# Altium footprint library Heat-Sinks.PcbLib: 58 footprints (part 4 of 4)
Each footprint in its own frame and in the unit in brackets; x right, y up, seen from the top. Pads: shape width x height; smd on the part's side, far side on the other; paste and mask are expansions set on the pad; w line width, h text height; cw(c..) or ccw(c..) is an arc to the next point about the centre after c.
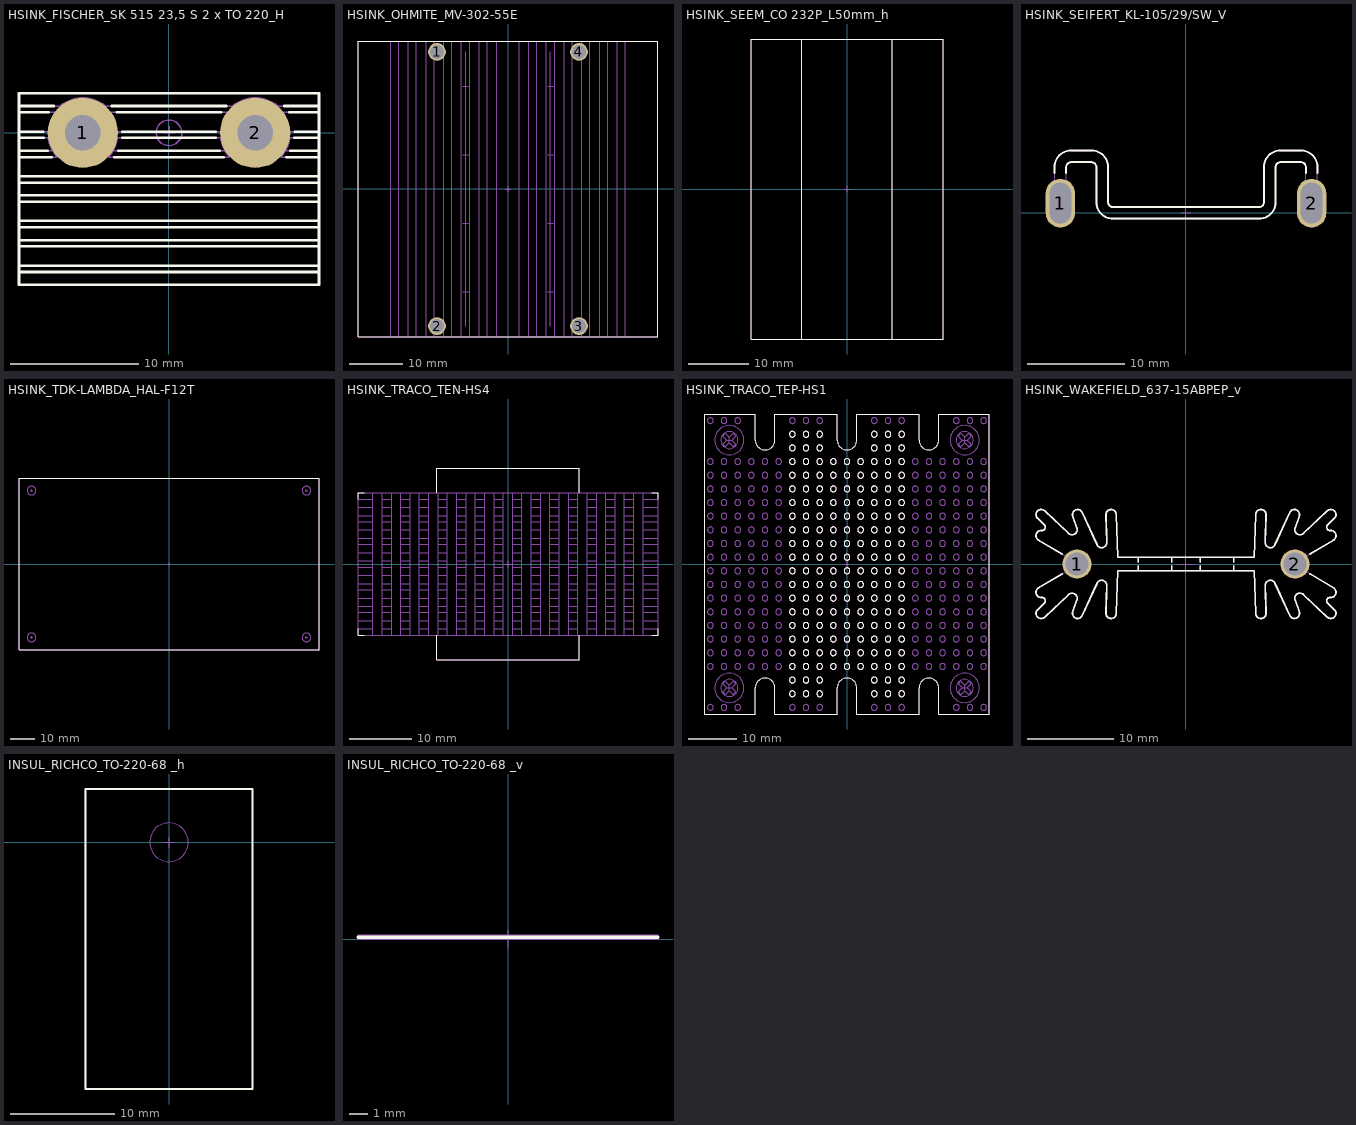
[diagram p3: the footprints below, top view; thin cyan lines are the x and y axes]

## HSINK_FISCHER_SK 515 23,5 S 2 x TO 220_H [mm] "Black Anodised Extruded Heat Sink Rth: 27.5°C/W For 2 x TO220 - Body L 23.5mm X W 15mm H 10.7mm (Screw Fastening M2.5 Version)"
height 10.7
pads (2):
  round 5.5 hole 2.8: 1(-6.75,0) 2(6.75,0)
Top Overlay:
  lines w0.2: -11.75,-10.9 11.75,-10.9 ; -11.75,-10.4 11.75,-10.4 ; -11.75,-8.9 11.75,-8.9 ; -11.75,-8.4 11.75,-8.4 ; -11.75,-7.4 11.75,-7.4 ; -11.75,-6.9 11.75,-6.9 ; -11.75,-5.4 11.75,-5.4 ; -11.75,-4.9 11.75,-4.9 ; -11.75,-3.9 11.75,-3.9 ; -11.75,-3.4 11.75,-3.4 ; -11.75,-1.9 -9.199,-1.9 ; -11.75,-1.4 -9.516,-1.4 ; -11.75,-0.4 -9.824,-0.4 ; -11.75,0.1 -9.848,0.1 ; -11.75,1.6 -9.405,1.6 ; -11.75,2.1 -9.03,2.1 ; -4.47,2.1 4.47,2.1 ; -4.3,-1.9 4.301,-1.9 ; -4.095,1.6 4.095,1.6 ; -3.984,-1.4 3.984,-1.4 ; -3.652,0.1 3.652,0.1 ; 9.03,2.1 11.75,2.1 ; 9.2,-1.9 11.75,-1.9 ; 9.405,1.6 11.75,1.6 ; 9.516,-1.4 11.75,-1.4 ; 9.824,-0.4 11.75,-0.4 ; 9.848,0.1 11.75,0.1 ; -11.75,-11.9 -11.75,3.1 11.75,3.1 11.75,-11.9 -11.75,-11.9 ; -3.676,-0.4 3.676,-0.4 -3.676,-0.4
Mechanical 8:
  lines w0.1: -7.25,0 -6.75,0 ; -6.75,-0.5 -6.75,0 ; -6.75,0.5 -6.75,0 ; -6.25,0 -6.75,0 ; -0.5,0 0,0 ; 0,-0.5 0,0 ; 0,0.5 0,0 ; 0.5,0 0,0 ; 6.25,0 6.75,0 ; 6.75,-0.5 6.75,0 ; 6.75,0.5 6.75,0 ; 7.25,0 6.75,0
Mechanical 14:
  circle w0.1: c0,0 r1
  circle w0.1: c6.75,0 r1.4
  circle w0.1: c-6.75,0 r1.4
  lines w0.1: -11.75,-10.9 11.75,-10.9 ; -11.75,-10.4 11.75,-10.4 ; -11.75,-8.9 11.75,-8.9 ; -11.75,-8.4 11.75,-8.4 ; -11.75,-7.4 11.75,-7.4 ; -11.75,-6.9 11.75,-6.9 ; -11.75,-5.4 11.75,-5.4 ; -11.75,-4.9 11.75,-4.9 ; -11.75,-3.9 11.75,-3.9 ; -11.75,-3.4 11.75,-3.4 ; -11.75,-1.9 -8.738,-1.9 cw(c-6.75,0) -9.471,-0.4 ; -11.75,-1.4 -9.117,-1.4 ; -11.75,-0.4 -8.092,-0.4 ; -11.75,0.1 -8.146,0.1 ; -11.75,1.6 11.75,1.6 ; -11.75,2.1 11.75,2.1 ; -8.525,2.1 cw(c-6.75,0) -4.974,2.1 ; -5.408,-0.4 5.408,-0.4 ; -5.354,0.1 5.354,0.1 ; -4.383,-1.4 4.383,-1.4 ; 4.975,2.1 cw(c6.75,0) 8.526,2.1 ; 8.092,-0.4 11.75,-0.4 ; 8.146,0.1 11.75,0.1 ; 9.117,-1.4 11.75,-1.4 ; 9.471,-0.4 cw(c6.75,0) 8.738,-1.9 11.75,-1.9 ; -11.75,-11.9 -11.75,3.1 11.75,3.1 11.75,-11.9 -11.75,-11.9 ; -4.762,-1.9 ccw(c-6.75,0) -4.029,-0.4 4.029,-0.4 ccw(c6.75,0) 4.762,-1.9 -4.762,-1.9
3D body "HSINK_FISCHER_SK 515 23,5 S 2 x TO 220_h.stp": height 10.7, standoff 0, extent -11.75,-11.9 11.75,3.1

## HSINK_OHMITE_MV-302-55E [mm] "Heatsink With Clips For TO-264 And TO-247, L 55mm x W 55.9mm x H 43.5mm, Vertical Mount"
height 43.5
pads (4):
  round 3.3 hole 2.6: 1(-13.2,25.5) 2(-13.2,-25.5) 3(13.2,-25.5) 4(13.2,25.5)
Top Overlay:
  lines w0.2: -27.9,-27.5 27.9,-27.5 27.9,27.5 -27.9,27.5 -27.9,-27.5
Mechanical 8:
  circle w0.05: c-13.2,-25.5 r1.25
  circle w0.05: c13.2,-25.5 r1.25
  circle w0.05: c-13.2,25.5 r1.25
  circle w0.05: c13.2,25.5 r1.25
  lines w0.05: -13.7,-25.5 -13.2,-25.5 ; -13.7,25.5 -13.2,25.5 ; -13.2,-26 -13.2,-25.5 ; -13.2,-25 -13.2,-25.5 ; -13.2,25 -13.2,25.5 ; -13.2,26 -13.2,25.5 ; -12.7,-25.5 -13.2,-25.5 ; -12.7,25.5 -13.2,25.5 ; -8.4,-19.125 -7.9,-19.125 ; -8.4,-6.375 -7.9,-6.375 ; -8.4,6.375 -7.9,6.375 ; -8.4,19.125 -7.9,19.125 ; -7.9,-25.5 -7.9,25.5 ; -7.9,-19.625 -7.9,-19.125 ; -7.9,-18.625 -7.9,-19.125 ; -7.9,-6.875 -7.9,-6.375 ; -7.9,-5.875 -7.9,-6.375 ; -7.9,5.875 -7.9,6.375 ; -7.9,6.875 -7.9,6.375 ; -7.9,18.625 -7.9,19.125 ; -7.9,19.625 -7.9,19.125 ; -7.4,-19.125 -7.9,-19.125 ; -7.4,-6.375 -7.9,-6.375 ; -7.4,6.375 -7.9,6.375 ; -7.4,19.125 -7.9,19.125 ; -0.5,0 0,0 ; 0,-0.5 0,0 ; 0,0.5 0,0 ; 0.5,0 0,0 ; 7.4,-19.125 7.9,-19.125 ; 7.4,-6.375 7.9,-6.375 ; 7.4,6.375 7.9,6.375 ; 7.4,19.125 7.9,19.125 ; 7.9,-25.5 7.9,25.5 ; 7.9,-19.625 7.9,-19.125 ; 7.9,-18.625 7.9,-19.125 ; 7.9,-6.875 7.9,-6.375 ; 7.9,-5.875 7.9,-6.375 ; 7.9,5.875 7.9,6.375 ; 7.9,6.875 7.9,6.375 ; 7.9,18.625 7.9,19.125 ; 7.9,19.625 7.9,19.125 ; 8.4,-19.125 7.9,-19.125 ; 8.4,-6.375 7.9,-6.375 ; 8.4,6.375 7.9,6.375 ; 8.4,19.125 7.9,19.125 ; 12.7,-25.5 13.2,-25.5 ; 12.7,25.5 13.2,25.5 ; 13.2,-26 13.2,-25.5 ; 13.2,-25 13.2,-25.5 ; 13.2,25 13.2,25.5 ; 13.2,26 13.2,25.5 ; 13.7,-25.5 13.2,-25.5 ; 13.7,25.5 13.2,25.5
Mechanical 14:
  lines w0.1: -21.85,-27.5 -21.85,27.5 ; -20.35,-27.5 -20.35,27.5 ; -18.55,-27.5 -18.55,27.5 ; -17.05,-27.5 -17.05,27.5 ; -15.25,-27.5 -15.25,27.5 ; -13.75,-27.5 -13.75,27.5 ; -11.95,-27.5 -11.95,27.5 ; -10.45,-27.5 -10.45,27.5 ; -8.65,-27.5 -8.65,27.5 ; -7.15,-27.5 -7.15,27.5 ; -5.35,-27.5 -5.35,27.5 ; -3.85,-27.5 -3.85,27.5 ; -2.05,-27.5 -2.05,27.5 ; 2.05,-27.5 2.05,27.5 ; 3.85,-27.5 3.85,27.5 ; 5.35,-27.5 5.35,27.5 ; 7.15,-27.5 7.15,27.5 ; 8.65,-27.5 8.65,27.5 ; 10.45,-27.5 10.45,27.5 ; 11.95,-27.5 11.95,27.5 ; 13.75,-27.5 13.75,27.5 ; 15.25,-27.5 15.25,27.5 ; 17.05,-27.5 17.05,27.5 ; 18.55,-27.5 18.55,27.5 ; 20.35,-27.5 20.35,27.5 ; 21.85,-27.5 21.85,27.5 ; -27.9,-27.5 27.9,-27.5 27.9,27.5 -27.9,27.5 -27.9,-27.5
3D body "HSINK_OHMITE_MV-302-55E.stp": height 43.74, standoff -3.8, extent -27.899,-27.5 27.9,27.5

## HSINK_SEEM_CO 232P_L50mm_h [mm] "Rth: 6.8°C/W - 50mm Cut Black Anodized Heatsinks"
height 14.1
Top Overlay:
  lines w0.2: -7.5,-25 -7.5,25 ; 7.5,-25 7.5,25 ; -16,-25 -16,25 0,25 16,25 16,-25 0,-25 -16,-25
Mechanical 8:
  lines w0.1: -0.5,0 0,0 ; 0,-0.5 0,0 ; 0,0.5 0,0 ; 0.5,0 0,0
Mechanical 14:
  lines w0.1: -7.5,-25 -7.5,25 ; 7.5,-25 7.5,25 ; -16,-25 16,-25 16,25 -16,25 -16,-25
3D body "HSINK_SEEM_CO 232P_L50mm_h.stp": height 14.1, standoff 0, extent -16,-25 16,25

## HSINK_SEIFERT_KL-105/29/SW_V [mm] "TO-220 Heat Sink  Rth: 19°C/W - Vertical Mount"
height 29
pads (2):
  oval 3x5 hole 2.2 slot 4.2 at 90 deg: 1(-12.9,1) 2(12.9,1)
Top Overlay:
  lines w0.2: -13.5,4.1 -13.5,4.699 ; -13.5,4.7 cw(c-11.8,4.7) -11.8,6.4 -9.7,6.4 cw(c-9.7,4.7) -8,4.7 -8,1.1 ccw(c-7.5,1.1) -7.5,0.6 7.5,0.6 ccw(c7.5,1.1) 8,1.1 8,4.7 cw(c9.7,4.7) 9.7,6.4 11.8,6.4 cw(c11.8,4.7) 13.5,4.7 13.5,4.1 ; -12.3,4.1 -12.3,4.7 cw(c-11.8,4.7) -11.8,5.2 -9.7,5.2 cw(c-9.7,4.7) -9.2,4.7 -9.2,1.1 ccw(c-7.5,1.1) -7.5,-0.6 7.5,-0.6 ccw(c7.5,1.1) 9.2,1.1 9.2,4.7 cw(c9.7,4.7) 9.7,5.2 11.8,5.2 cw(c11.8,4.7) 12.3,4.7 ; 12.3,4.1 12.3,4.699
Mechanical 8:
  lines w0.1: -13.4,0 -12.9,0 ; -13.4,1 -12.9,1 ; -13.4,2 -12.9,2 ; -12.9,-0.5 -12.9,0 ; -12.9,2.5 -12.9,2 ; -12.4,0 -12.9,0 ; -12.4,1 -12.9,1 ; -12.4,2 -12.9,2 ; -0.5,0 0,0 ; 0,-0.5 0,0 ; 0,0.5 0,0 ; 0.5,0 0,0 ; 12.4,0 12.9,0 ; 12.4,1 12.9,1 ; 12.4,2 12.9,2 ; 12.9,-0.5 12.9,0 ; 12.9,2.5 12.9,2 ; 13.4,0 12.9,0 ; 13.4,1 12.9,1 ; 13.4,2 12.9,2 ; -12.9,0 -12.9,0.5 -12.9,1 ; -12.9,1 -12.9,1.5 -12.9,2 ; 12.9,0 12.9,0.5 12.9,1 ; 12.9,1 12.9,1.5 12.9,2 ; -14,0 ccw(c-12.9,0) -11.8,0 -11.8,2 ccw(c-12.9,2) -14,2 -14,0 ; 11.8,0 ccw(c12.9,0) 14,0 14,2 ccw(c12.9,2) 11.8,2 11.8,0
Mechanical 14:
  lines w0.1: -13.5,-0.6 -13.5,4.7 cw(c-11.8,4.7) -11.8,6.4 -9.7,6.4 cw(c-9.7,4.7) -8,4.7 -8,1.1 ccw(c-7.5,1.1) -7.5,0.6 7.5,0.6 ccw(c7.5,1.1) 8,1.1 8,4.7 cw(c9.7,4.7) 9.7,6.4 11.8,6.4 cw(c11.8,4.7) 13.5,4.7 13.5,-0.6 12.3,-0.6 12.3,4.7 ccw(c11.8,4.7) 11.8,5.2 9.7,5.2 ccw(c9.7,4.7) 9.2,4.7 9.2,1.1 cw(c7.5,1.1) 7.5,-0.6 -7.5,-0.6 cw(c-7.5,1.1) -9.2,1.1 -9.2,4.7 ccw(c-9.7,4.7) -9.7,5.2 -11.8,5.2 ccw(c-11.8,4.7) -12.3,4.7 -12.3,-0.6 -13.5,-0.6
3D body "HSINK_SEIFERT_KL-105-29-SW.stp": height 29, standoff -4, extent -14.455,-0.6 14.456,6.4

## HSINK_TDK-LAMBDA_HAL-F12T [mm] "Extruded Heat Sink, Rth: 0.97°C/W - L 122mm X W 69.9mm H 35mm"
height 35
Top Overlay:
  lines w0.2: -61,-34.95 -61,34.95 61,34.95 61,-34.95 -61,-34.95
Mechanical 8:
  lines w0.05: -56.4,-29.85 -55.9,-29.85 ; -56.4,29.85 -55.9,29.85 ; -55.9,-30.35 -55.9,-29.85 ; -55.9,-29.35 -55.9,-29.85 ; -55.9,29.35 -55.9,29.85 ; -55.9,30.35 -55.9,29.85 ; -55.4,-29.85 -55.9,-29.85 ; -55.4,29.85 -55.9,29.85 ; -0.5,0 0,0 ; 0,-0.5 0,0 ; 0,0.5 0,0 ; 0.5,0 0,0 ; 55.4,-29.85 55.9,-29.85 ; 55.4,29.85 55.9,29.85 ; 55.9,-30.35 55.9,-29.85 ; 55.9,-29.35 55.9,-29.85 ; 55.9,29.35 55.9,29.85 ; 55.9,30.35 55.9,29.85 ; 56.4,-29.85 55.9,-29.85 ; 56.4,29.85 55.9,29.85
Mechanical 14:
  circle w0.1: c55.9,-29.85 r1.75
  circle w0.1: c-55.9,29.85 r1.75
  circle w0.1: c-55.9,-29.85 r1.75
  circle w0.1: c55.9,29.85 r1.75
  lines w0.1: -61,-34.95 -61,34.95 61,34.95 61,-34.95 -61,-34.95
3D body "HSINK_TDK-LAMBDA_HAL-F12T.stp": height 39.5, standoff 0, extent -61,-34.95 61,34.95

## HSINK_TRACO_TEN-HS4 [mm] "Heat Sink  Rth:10K/W For TEN Serie DC-DC Converter"
height 17.2
Top Overlay:
  lines w0.1: -24.15,-10.45 -24.15,-11.45 -23.15,-11.45 ; -24.15,10.45 -24.15,11.45 -23.15,11.45 ; -11.5,-11.45 -11.5,-15.393 11.5,-15.393 11.5,-11.45 ; -11.5,11.45 -11.5,15.393 11.5,15.393 11.5,11.45 ; 23.15,-11.45 24.15,-11.45 24.15,-10.45 ; 23.15,11.45 24.15,11.45 24.15,10.45
Mechanical 8:
  lines w0.1: -0.5,0 0,0 ; 0,-0.5 0,0 ; 0,0.5 0,0 ; 0.5,0 0,0
Mechanical 14:
  drawing of 328 lines, arcs and shapes, not listed
3D body "HSINK_TRACO_TEN-HS4.stp": height 17.2, standoff 0, extent -24.15,-15.51 24.15,15.51

## HSINK_TRACO_TEP-HS1 [mm] "Heat Sink For TEP 100WIR Series DC-DC Converter, L58.4 x W61.4 x H11.9mm"
height 11.9
Top Overlay:
  drawing of 196 lines, arcs and shapes, not listed
Mechanical 8:
  circle w0.1: c-24.13,25.4 r1.75
  circle w0.1: c24.13,25.4 r1.75
  circle w0.1: c24.13,-25.4 r1.75
  circle w0.1: c-24.13,-25.4 r1.75
  lines w0.1: -24.63,-25.4 -24.13,-25.4 ; -24.63,25.4 -24.13,25.4 ; -24.13,-25.9 -24.13,-25.4 ; -24.13,-24.9 -24.13,-25.4 ; -24.13,24.9 -24.13,25.4 ; -24.13,25.9 -24.13,25.4 ; -23.63,-25.4 -24.13,-25.4 ; -23.63,25.4 -24.13,25.4 ; -0.5,0 0,0 ; 0,-0.5 0,0 ; 0,0.5 0,0 ; 0.5,0 0,0 ; 23.63,-25.4 24.13,-25.4 ; 23.63,25.4 24.13,25.4 ; 24.13,-25.9 24.13,-25.4 ; 24.13,-24.9 24.13,-25.4 ; 24.13,24.9 24.13,25.4 ; 24.13,25.9 24.13,25.4 ; 24.63,-25.4 24.13,-25.4 ; 24.63,25.4 24.13,25.4
Mechanical 14:
  drawing of 464 lines, arcs and shapes, not listed
3D body "HSINK_TRACO_TEP-HS1.stp": height 11.9, standoff -6.6, extent -29.2,-30.75 29.2,30.75

## HSINK_WAKEFIELD_637-15ABPEP_v [mm] "Extruded Heat sinks for PCB Mounting Rth: 5.5°C/W - L 34.9mm X W 12.7mm H 38.1mm"
height 38.1
pads (2):
  round 3.4 hole 2.7: 1(-12.7,-0.001) 2(12.7,-0.001)
Top Overlay:
  lines w0.2: -14.449,-1.164 -17.184,-2.786 ccw(c-16.878,-3.302) -16.829,-3.9 cw(c-16.796,-4.299) -16.521,-4.589 -17.29,-5.316 ccw(c-16.878,-5.752) -16.466,-6.188 -13.69,-3.565 cw(c-13.278,-4.002) -12.713,-4.203 -13.193,-5.55 ccw(c-12.628,-5.751) -12.082,-6 -10.374,-2.252 cw(c-9.828,-2.501) -9.228,-2.52 -9.327,-5.732 ccw(c-8.728,-5.751) -8.128,-5.757 -7.95,-0.8 0,-0.8 7.95,-0.8 8.128,-5.757 ; -14.447,1.164 -17.185,2.787 cw(c-16.879,3.303) -16.83,3.901 ccw(c-16.797,4.3) -16.522,4.59 -17.291,5.317 cw(c-16.879,5.753) -16.467,6.189 -13.691,3.567 ccw(c-13.279,4.003) -12.714,4.205 -13.194,5.551 cw(c-12.629,5.753) -12.083,6.002 -10.375,2.254 ccw(c-9.829,2.503) -9.229,2.522 -9.329,5.734 cw(c-8.729,5.753) -8.129,5.76 -7.95,0.8 0,0.8 7.95,0.8 8.128,5.76 cw(c8.728,5.753) 9.328,5.734 9.228,2.522 ccw(c9.828,2.503) 10.374,2.254 12.082,6.002 cw(c12.628,5.753) 13.193,5.552 12.713,4.205 ccw(c13.278,4.004) 13.69,3.567 16.466,6.19 cw(c16.878,5.754) 17.29,5.318 16.521,4.591 ccw(c16.795,4.301) 16.828,3.902 ; -5.55,-0.8 -5.55,-0.2 ; -5.55,0.2 -5.55,0.8 ; -1.65,-0.8 -1.65,-0.2 ; -1.65,0.2 -1.65,0.8 ; 1.65,-0.8 1.65,-0.2 ; 1.65,0.2 1.65,0.8 ; 5.55,-0.8 5.55,-0.2 ; 5.55,0.2 5.55,0.8 ; 8.129,-5.758 ccw(c8.729,-5.751) 9.329,-5.732 9.229,-2.516 cw(c9.829,-2.497) 10.375,-2.248 12.083,-5.995 ccw(c12.629,-5.746) 13.194,-5.545 12.714,-4.198 cw(c13.279,-3.996) 13.691,-3.56 16.467,-6.182 ccw(c16.879,-5.746) 17.291,-5.31 16.522,-4.583 cw(c16.797,-4.293) 16.83,-3.894 ccw(c16.879,-3.296) 17.185,-2.78 14.451,-1.16 ; 14.447,1.165 17.184,2.788 ccw(c16.876,3.305) 16.795,3.901
Mechanical 8:
  lines w0.1: -13.7,-0.001 -12.7,-0.001 ; -12.7,-1.001 -12.7,-0.001 ; -12.7,0.999 -12.7,-0.001 ; -11.7,-0.001 -12.7,-0.001 ; 11.7,-0.001 12.7,-0.001 ; 12.7,-1.001 12.7,-0.001 ; 12.7,0.999 12.7,-0.001 ; 13.7,-0.001 12.7,-0.001 ; 0,0 -1,0 0,0 ; 0,0 1,0 0,0 ; 0,0 0,1 0,0 ; 0,0 0,-1 0,0
Mechanical 14:
  circle w0.1: c12.7,-0.001 r1.2
  circle w0.1: c-12.7,-0.001 r1.2
  circle w0.1: c12.7,-0.001 r1.2
  circle w0.1: c-12.7,-0.001 r1.2
  lines w0.1: -13.659,-0.722 ccw(c-13.616,-1.019) -13.769,-0.761 -17.184,-2.786 ccw(c-16.878,-3.302) -16.829,-3.9 cw(c-16.796,-4.299) -16.521,-4.589 -17.29,-5.316 ccw(c-16.878,-5.752) -16.466,-6.188 -13.69,-3.565 cw(c-13.278,-4.002) -12.713,-4.203 -13.193,-5.55 ccw(c-12.628,-5.751) -12.082,-6 -10.374,-2.252 cw(c-9.828,-2.501) -9.228,-2.52 -9.327,-5.732 ccw(c-8.728,-5.751) -8.128,-5.757 -7.95,-0.8 0,-0.8 7.95,-0.8 8.128,-5.757 ; -13.657,0.723 cw(c-13.616,1.02) -13.769,0.762 -17.185,2.787 cw(c-16.879,3.303) -16.83,3.901 ccw(c-16.797,4.3) -16.522,4.59 -17.291,5.317 cw(c-16.879,5.753) -16.467,6.189 -13.691,3.567 ccw(c-13.279,4.003) -12.714,4.205 -13.194,5.551 cw(c-12.629,5.753) -12.083,6.002 -10.375,2.254 ccw(c-9.829,2.503) -9.229,2.522 -9.329,5.734 cw(c-8.729,5.753) -8.129,5.76 -7.95,0.8 0,0.8 7.95,0.8 8.128,5.76 cw(c8.728,5.753) 9.328,5.734 9.228,2.522 ccw(c9.828,2.503) 10.374,2.254 12.082,6.002 cw(c12.628,5.753) 13.193,5.552 12.713,4.205 ccw(c13.278,4.004) 13.69,3.567 16.466,6.19 cw(c16.878,5.754) 17.29,5.318 16.521,4.591 ccw(c16.795,4.301) 16.828,3.902 ; -11.741,0.72 -11.529,0.72 -11.529,0.259 ; -11.738,-0.719 -11.528,-0.719 -11.528,-0.261 ; -5.55,-0.8 -5.55,-0.2 ; -5.55,0.2 -5.55,0.8 ; -1.65,-0.8 -1.65,-0.2 ; -1.65,0.2 -1.65,0.8 ; 1.65,-0.8 1.65,-0.2 ; 1.65,0.2 1.65,0.8 ; 5.55,-0.8 5.55,-0.2 ; 5.55,0.2 5.55,0.8 ; 8.129,-5.758 ccw(c8.729,-5.751) 9.329,-5.732 9.229,-2.516 cw(c9.829,-2.497) 10.375,-2.248 12.083,-5.995 ccw(c12.629,-5.746) 13.194,-5.545 12.714,-4.198 cw(c13.279,-3.996) 13.691,-3.56 16.467,-6.182 ccw(c16.879,-5.746) 17.291,-5.31 16.522,-4.583 cw(c16.797,-4.293) 16.83,-3.894 ccw(c16.879,-3.296) 17.185,-2.78 13.769,-0.756 ccw(c13.616,-1.014) 13.663,-0.717 ; 11.528,0.259 11.528,0.721 11.741,0.721 ; 11.528,-0.261 11.529,-0.714 11.735,-0.714 ; 13.656,0.724 ccw(c13.616,1.021) 13.769,0.763 17.184,2.788 ccw(c16.876,3.305) 16.795,3.901
3D body "HSINK_WAKEFIELD_637-15ABPEP_v.stp": height 38.1, standoff -4, extent -17.479,-6.352 17.479,6.354

## INSUL_RICHCO_TO-220-68 _h [mm] "TO-220 Transistor Case Insulator, L 28.7mm x W 16mm x H 0.18mm, Horizontal Mount"
height 0.18
Top Overlay:
  lines w0.2: -8,-23.6 -8,5.1 8,5.1 8,-23.6 -8,-23.6
Mechanical 8:
  lines w0.05: -0.5,0 0,0 ; 0,-0.5 0,0 ; 0,0.5 0,0 ; 0.5,0 0,0
Mechanical 14:
  circle w0.1: c0,0 r1.85
  lines w0.1: -8,-23.6 8,-23.6 8,5.1 -8,5.1 -8,-23.6
3D body "INSUL_RICHCO_TO-220-68 _h.stp": height 0.18, standoff 0, extent -8,-23.6 8,5.1

## INSUL_RICHCO_TO-220-68 _v [mm] "TO-220 Transistor Case Insulator, L 28.7mm x W 16mm x H 0.18mm, Vertical Mount"
height 28.7
Top Overlay:
  lines w0.18: -8,0.09 8,0.09
Mechanical 8:
  lines w0.05: -1.85,0 -1.85,0.18 ; -0.5,0 0.5,0 ; 0,-0.5 0,0.5 ; 1.85,0 1.85,0.18
Mechanical 14:
  lines w0.1: -1.85,0 -1.85,0.18 ; 1.85,0 1.85,0.18 ; -8,0 8,0 8,0.18 -8,0.18 -8,0
3D body "INSUL_RICHCO_TO-220-68 _v.stp": height 28.7, standoff 0, extent -8,0 8,0.18